# EAGLE library part MAX223 (library 000001)
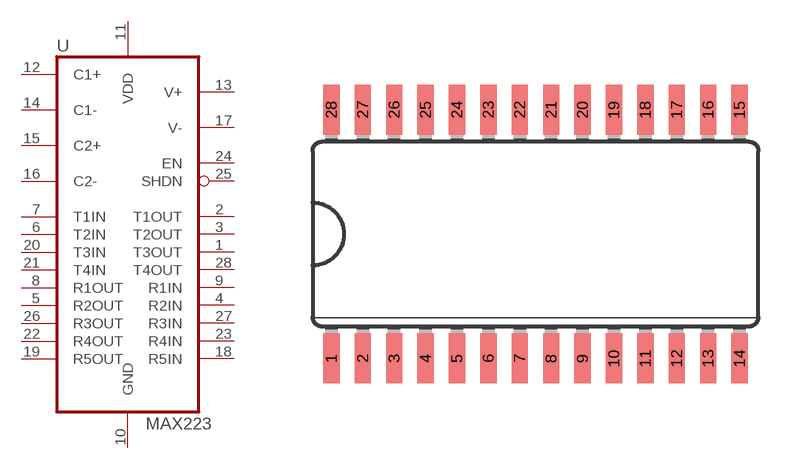
[diagram p17: symbol with the pads of SO28W; footprint SO28W]

Designator prefix -

## MAX223  [SO28W]
1  T3OUT  out
2  T1OUT  out
3  T2OUT  out
4  R2IN  in
5  R2OUT  out
6  T2IN  in
7  T1IN  in
8  R1OUT  out
9  R1IN  in
10  GND  pwr
11  VDD  pwr
12  C1+
13  V+
14  C1-
15  C2+
16  C2-
17  V-
18  R5IN  in
19  R5OUT  out
20  T3IN  in
21  T4IN  in
22  R4OUT  out
23  R4IN  in
24  EN  in
25  SHDN  in
26  R3OUT  out
27  R3IN  in
28  T4OUT  out

## Footprint SO28W (pad centres in mm)
smd 0.66 x 2.032: 1 -8.255,-5.029; 2 -6.985,-5.029; 3 -5.715,-5.029; 4 -4.445,-5.029; 5 -3.175,-5.029; 6 -1.905,-5.029; 7 -0.635,-5.029; 8 0.635,-5.029; 9 1.905,-5.029; 10 3.175,-5.029; 11 4.445,-5.029; 12 5.715,-5.029; 13 6.985,-5.029; 14 8.255,-5.029; 15 8.255,5.029; 16 6.985,5.029; 17 5.715,5.029; 18 4.445,5.029; 19 3.175,5.029; 20 1.905,5.029; 21 0.635,5.029; 22 -0.635,5.029; 23 -1.905,5.029; 24 -3.175,5.029; 25 -4.445,5.029; 26 -5.715,5.029; 27 -6.985,5.029; 28 -8.255,5.029